# EAGLE library part 691370710012B (library Eagle_WR-TBL Pluggable Connector (rev21a))
WR-TBL Serie 370B - 5.00 mm Horizontal Male PCB Header KIND PROPERTIES Pitch 5 mm MATERIAL PROPERTIES Insulator Material PA66 Insulator Flammability Rating UL94 V-0 Contact Material Brass Contact Plating Tin GENERAL INFORMATION Operating Temperature -40 up to +105 °C Compliance RoHS ELECTRICAL PROPERTIES IR cULus 16 A Working Voltage [cULus] 300 V (AC) Withstanding Voltage [cULus] 2000 V (AC) contact Resistance [cULus] 20 mΩ <https://www.we-online.com/catalog/media/o55394v209%20Family_Con_TBL_Pluggable_5_PCB_H_6913707100xxB_pf2.jpg> Details see: https://www.we-online.com/catalog/en/TBL_5_00_370B_HORIZONTAL_MALE_PCB_HEADER_69137071000XB/ Updated by Ella Wu 2019-12-24 2019(C) Wurth Elektronik
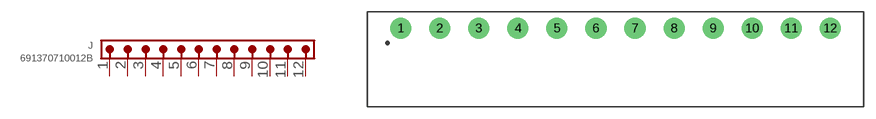
[diagram p213: symbol with the pads of 691370710012B; footprint 691370710012B]

Designator prefix J

## 691370710012B (DATASHEET-URL: https://www.we-online.com/catalog/datasheet/691370710012B.pdf; IR-UL: 16A; MOUNT: THT; PART-NUMBER: 691370710012B; PINS: 12; PITCH: 5mm; TYPE: Horizontal; VALUE: 691370710012B; WORKING-VOLTAGE-UL: 300V (AC))  [691370710012B]
1  1  pas
2  2  pas
3  3  pas
4  4  pas
5  5  pas
6  6  pas
7  7  pas
8  8  pas
9  9  pas
10  10  pas
11  11  pas
12  12  pas

## Footprint 691370710012B (pad centres in mm)
WR-TBL Serie 370B - 5.00 mm Horizontal Male PCB Header Max Height = 11.5mm , Pitch 5mm , 12pins
drill 1.8: 1 -27.5,0; 2 -22.5,0; 3 -17.5,0; 4 -12.5,0; 5 -7.5,0; 6 -2.5,0; 7 2.5,0; 8 7.5,0; 9 12.5,0; 10 17.5,0; 11 22.5,0; 12 27.5,0